# Altium integrated library WS2812.IntLib: 1 symbol
Pins are listed as number, name and electrical type; pins without a type are passive.

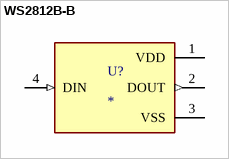
[diagram p0: symbol WS2812B-B]

## WS2812B-B
designator U?
Intelligent control LED integrated light source; MP: WS2812B-B; Availability: Unavailable; Price: None; Package: None; Value: *
footprint LED_WS2812B-B
pins: 1 VDD (power), 2 DOUT (out), 3 VSS (power), 4 DIN (in)